# Altium footprint library 三电平变换器.PCBLIB: 98 footprints (part 2 of 7)
Each footprint in its own frame and in the unit in brackets; x right, y up, seen from the top. Pads: shape width x height; smd on the part's side, far side on the other; paste and mask are expansions set on the pad; w line width, h text height; cw(c..) or ccw(c..) is an arc to the next point about the centre after c.
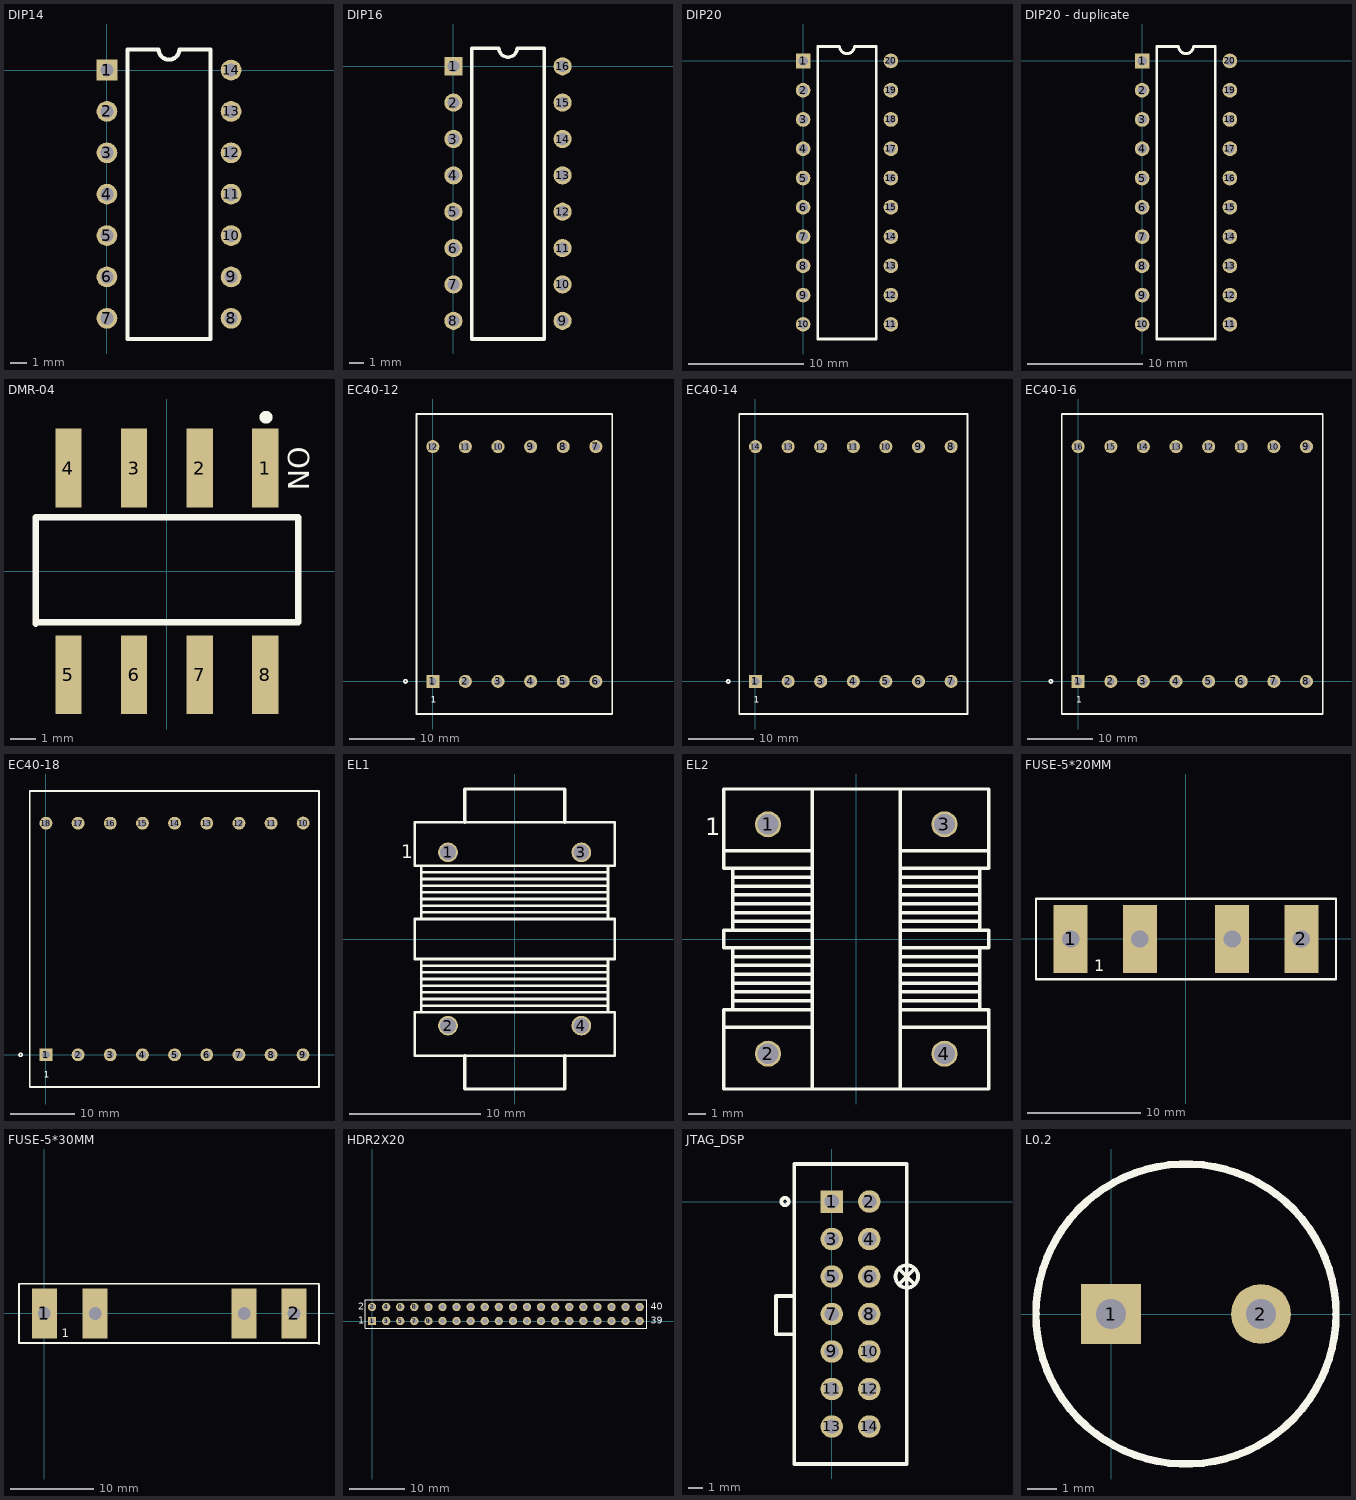
[diagram p1: the footprints below, top view; thin cyan lines are the x and y axes]

## DIP14 [mil]
pads (14):
  rect 50x50 hole 32: 1(0,0)
  round 50 hole 32: 2(0,-100) 3(0,-200) 4(0,-300) 5(0,-400) 6(0,-500) 7(0,-600) 8(300,-600) 9(300,-500) 10(300,-400) 11(300,-300) 12(300,-200) 13(300,-100) 14(300,0)
TopOverlay:
  lines w10: 50,-650 250,-650 250,50 175,50 cw(c150,50) 125,50 50,50 50,-650

## DIP16 [mil]
pads (16):
  rect 50x50 hole 32: 1(0,0)
  round 50 hole 32: 2(0,-100) 3(0,-200) 4(0,-300) 5(0,-400) 6(0,-500) 7(0,-600) 8(0,-700) 9(300,-700) 10(300,-600) 11(300,-500) 12(300,-400) 13(300,-300) 14(300,-200) 15(300,-100) 16(300,0)
TopOverlay:
  lines w10: 50,-750 250,-750 250,50 175,50 cw(c150,50) 125,50 50,50 50,-750

## DIP20 [mil]
pads (20):
  rect 50x50 hole 32: 1(0,0)
  round 50 hole 32: 2(0,-100) 3(0,-200) 4(0,-300) 5(0,-400) 6(0,-500) 7(0,-600) 8(0,-700) 9(0,-800) 10(0,-900) 11(300,-900) 12(300,-800) 13(300,-700) 14(300,-600) 15(300,-500) 16(300,-400) 17(300,-300) 18(300,-200) 19(300,-100) 20(300,0)
TopOverlay:
  lines w10: 50,-950 50,50 125,50 ccw(c150,50) 175,50 250,50 250,-950 50,-950

## DIP20 - duplicate [mil]
pads (20):
  rect 50x50 hole 32: 1(0,0)
  round 50 hole 32: 2(0,-100) 3(0,-200) 4(0,-300) 5(0,-400) 6(0,-500) 7(0,-600) 8(0,-700) 9(0,-800) 10(0,-900) 11(300,-900) 12(300,-800) 13(300,-700) 14(300,-600) 15(300,-500) 16(300,-400) 17(300,-300) 18(300,-200) 19(300,-100) 20(300,0)
TopOverlay:
  lines w10: 50,-950 50,50 125,50 ccw(c150,50) 175,50 250,50 250,-950 50,-950

## DMR-04 [mil]
pads (8):
  rect 40x120 smd: 1(150.4,157.5) 2(50.4,157.5) 3(-49.6,157.5) 4(-149.6,157.5) 5(-149.6,-157.5) 6(-49.6,-157.5) 7(50.4,-157.5) 8(150.4,-157.5)
TopOverlay:
  circle w9.84: c151.54,235 r4.92
  lines w10: -199.6,-80 -199.6,80 ; -199.6,-77.5 200.4,-77.5 200.4,82.5 -199.6,82.5
  text "ON" at 185.4,190 h31.5

## EC40-12 [mm] "12脚变压器"
pads (12):
  rect 2x2 hole 1.2: 1(0,0)
  round 2 hole 1.2: 2(5,0) 3(10,0) 4(15,0) 5(20,0) 6(25,0) 7(25,36) 8(20,36) 9(15,36) 10(10,36) 11(5,36) 12(0,36)
TopOverlay:
  circle w0.25: c-4.189,0 r0.25
  lines w0.254: -2.5,-5 27.5,-5 27.5,41 -2.5,41 -2.5,-5
  text "1" at -0.305,-3.277 h1.02

## EC40-14 [mm] "14脚变压器"
pads (14):
  rect 2x2 hole 1.2: 1(0,0)
  round 2 hole 1.2: 2(5,0) 3(10,0) 4(15,0) 5(20,0) 6(25,0) 7(30,0) 8(30,36) 9(25,36) 10(20,36) 11(15,36) 12(10,36) 13(5,36) 14(0,36)
TopOverlay:
  circle w0.25: c-4.189,0 r0.25
  lines w0.254: -2.5,-5 32.5,-5 32.5,41 -2.5,41 -2.5,-5
  text "1" at -0.305,-3.277 h1.02

## EC40-16 [mm] "16脚变压器"
pads (16):
  rect 2x2 hole 1.2: 1(0,0)
  round 2 hole 1.2: 2(5,0) 3(10,0) 4(15,0) 5(20,0) 6(25,0) 7(30,0) 8(35,0) 9(35,36) 10(30,36) 11(25,36) 12(20,36) 13(15,36) 14(10,36) 15(5,36) 16(0,36)
TopOverlay:
  circle w0.25: c-4.189,0 r0.25
  lines w0.254: -2.5,-5 37.5,-5 37.5,41 -2.5,41 -2.5,-5
  text "1" at -0.305,-3.277 h1.02

## EC40-18 [mm] "18脚变压器"
pads (18):
  rect 2x2 hole 1.2: 1(0,0)
  round 2 hole 1.2: 2(5,0) 3(10,0) 4(15,0) 5(20,0) 6(25,0) 7(30,0) 8(35,0) 9(39.953,0) 10(39.978,36.017) 11(35,36) 12(30,36) 13(25,36) 14(20,36) 15(15,36) 16(10,36) 17(5,36) 18(0,36)
TopOverlay:
  circle w0.25: c-3.935,0 r0.25
  lines w0.254: -2.5,-5 42.443,-5 42.443,41 -2.5,41 -2.5,-5
  text "1" at -0.305,-3.531 h1.02

## EL1 [mm]
pads (4):
  round 1.5 hole 1.2: 1(-5.08,6.604) 2(-5.08,-6.604) 3(5.08,6.604) 4(5.08,-6.604)
TopOverlay:
  lines w0.2: -7.112,-5.588 -7.112,-1.524 ; -7.112,-5.08 7.112,-5.08 ; -7.112,-4.572 7.112,-4.572 ; -7.112,-4.064 7.112,-4.064 ; -7.112,-3.556 7.112,-3.556 ; -7.112,-3.048 7.112,-3.048 ; -7.112,-2.54 7.112,-2.54 ; -7.112,-2.032 7.112,-2.032 ; -7.112,1.524 -7.112,5.588 ; -7.112,2.032 7.112,2.032 ; -7.112,2.54 7.112,2.54 ; -7.112,3.048 7.112,3.048 ; -7.112,3.556 7.112,3.556 ; -7.112,4.064 7.112,4.064 ; -7.112,4.572 7.112,4.572 ; -7.112,5.08 7.112,5.08 ; -3.81,-11.43 3.81,-11.43 ; -3.81,11.43 3.81,11.43 ; 7.112,-5.588 7.112,-1.524 ; 7.112,1.524 7.112,5.588 ; -7.62,-8.89 7.62,-8.89 7.62,-5.588 -7.62,-5.588 -7.62,-8.89 ; -7.62,-1.524 7.62,-1.524 7.62,1.524 -7.62,1.524 -7.62,-1.524 ; -7.62,5.588 7.62,5.588 7.62,8.89 -7.62,8.89 -7.62,5.588
  lines w0.254: -3.81,-11.43 -3.81,-8.89 ; -3.81,8.89 -3.81,11.43 ; 3.81,-11.43 3.81,-8.89 ; 3.81,8.89 3.81,11.43
  text "1" at -8.636,6.172 h1.02

## EL2 [mm]
pads (4):
  round 1.5 hole 1.2: 1(-5.08,6.604) 2(-5.08,-6.604) 3(5.08,6.604) 4(5.08,-6.604)
TopOverlay:
  lines w0.2: -7.62,-5.08 -2.54,-5.08 ; -7.112,-4.064 -7.112,-0.508 ; -7.112,-3.556 -2.54,-3.556 ; -7.112,-3.048 -2.54,-3.048 ; -7.112,-2.54 -2.54,-2.54 ; -7.112,-2.032 -2.54,-2.032 ; -7.112,-1.524 -2.54,-1.524 ; -7.112,-1.016 -2.54,-1.016 ; -7.112,0.508 -7.112,4.064 ; -7.112,1.016 -2.54,1.016 ; -7.112,1.524 -2.54,1.524 ; -7.112,2.032 -2.54,2.032 ; -7.112,2.54 -2.54,2.54 ; -7.112,3.048 -2.54,3.048 ; -7.112,3.556 -2.54,3.556 ; -2.54,-8.636 -2.54,8.636 ; -2.54,-4.064 -7.62,-4.064 -7.62,-8.636 7.62,-8.636 7.62,-4.064 2.54,-4.064 ; -2.54,-0.508 -7.62,-0.508 -7.62,0.508 -2.54,0.508 ; -2.54,4.064 -7.62,4.064 -7.62,5.08 ; -2.54,5.08 -7.62,5.08 ; 2.54,-8.636 2.54,8.636 ; 2.54,-5.08 7.62,-5.08 ; 2.54,-3.556 7.112,-3.556 ; 2.54,-3.048 7.112,-3.048 ; 2.54,-2.54 7.112,-2.54 ; 2.54,-2.032 7.112,-2.032 ; 2.54,-1.524 7.112,-1.524 ; 2.54,-1.016 7.112,-1.016 ; 2.54,-0.508 7.62,-0.508 7.62,0.508 2.54,0.508 ; 2.54,1.016 7.112,1.016 ; 2.54,1.524 7.112,1.524 ; 2.54,2.032 7.112,2.032 ; 2.54,2.54 7.112,2.54 ; 2.54,3.048 7.112,3.048 ; 2.54,3.556 7.112,3.556 ; 2.54,4.064 7.62,4.064 7.62,8.636 -7.62,8.636 -7.62,5.08 ; 2.54,5.08 7.62,5.08 ; 7.112,-4.064 7.112,-0.508 ; 7.112,0.508 7.112,4.064
  text "1" at -8.687,5.969 h1.02

## FUSE-5*20MM [mm] "保险管"
pads (4):
  rect 3x6 hole 1.524: 1(-10.16,0) 2(10.16,0) ""(-4.064,0) ""(4.064,0)
TopOverlay:
  lines w0.2: -13.208,-3.556 13.208,-3.556 13.208,3.556 -13.208,3.556 -13.208,-3.556
  text "1" at -8.077,-2.845 h1.02

## FUSE-5*30MM [mm] "保险管20A"
pads (4):
  rect 3x6 hole 1.524: 1(0,0) 2(30,0) ""(6.096,0) ""(24,0)
TopOverlay:
  lines w0.2: 33,-3.683 33,3.429 ; 33,-3.556 -3.048,-3.556 -3.048,3.556 33,3.556
  text "1" at 2.083,-2.845 h1.02

## HDR2X20 [mm]
pads (40):
  rect 1.5x1.5 hole 0.9: 1(0,0)
  round 1.5 hole 0.9: 2(0,2.54) 3(2.54,0) 4(2.54,2.54) 5(5.08,0) 6(5.08,2.54) 7(7.62,0) 8(7.62,2.54) 9(10.16,0) 10(10.16,2.54) 11(12.7,0) 12(12.7,2.54) 13(15.24,0) 14(15.24,2.54) 15(17.78,0) 16(17.78,2.54) 17(20.32,0) 18(20.32,2.54) 19(22.86,0) 20(22.86,2.54) 21(25.4,0) 22(25.4,2.54) 23(27.94,0) 24(27.94,2.54) 25(30.48,0) 26(30.48,2.54) 27(33.02,0) 28(33.02,2.54) 29(35.56,0) 30(35.56,2.54) 31(38.1,0) 32(38.1,2.54) 33(40.64,0) 34(40.64,2.54) 35(43.18,0) 36(43.18,2.54) 37(45.72,0) 38(45.72,2.54) 39(48.26,0) 40(48.26,2.54)
TopOverlay:
  lines w0.2: -1.27,-1.27 49.53,-1.27 49.53,3.81 -1.27,3.81 -1.27,-1.27
  text "1" at -2.54,-0.508 h1.27
  text "2" at -2.54,2.032 h1.27
  text "40" at 50.292,2.032 h1.27
  text "39" at 50.292,-0.508 h1.27

## JTAG_DSP [mil]
pads (14):
  rect 60x60 hole 38: 1(0,0)
  round 60 hole 38: 2(100,0) 3(0,-100) 4(100,-100) 5(0,-200) 6(100,-200) 7(0,-300) 8(100,-300) 9(0,-400) 10(100,-400) 11(0,-500) 12(100,-500) 13(0,-600) 14(100,-600)
TopOverlay:
  circle w10: c200,-200 r30
  circle w9.84: c-124.92,0 r9.84
  lines w10: -100,-354 -149,-354 -149,-252 -100,-252 ; 180,-220 219.37,-180.63 ; 180.63,-180.63 220,-220 ; -100,-700 200,-700 200,100 -100,100 -100,-700

## L0.2 [mil]
pads (2):
  rect 80x80 hole 40: 1(0,0)
  round 80 hole 40: 2(200,0)
TopOverlay:
  circle w10: c100,0 r200